# EAGLE library part T92S7D12 (library relay)
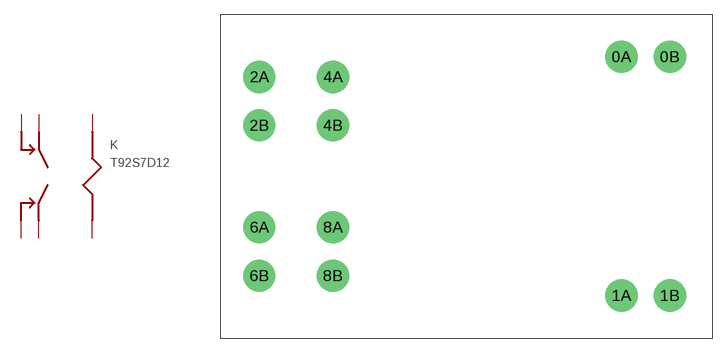
[diagram p0: symbol with the pads of T92-PCPIN; footprint T92-PCPIN]

Designator prefix K

## T92S7D12  [T92-PCPIN]
0A  0
0B  0
1A  1
1B  1
2A  2
2B  2
4A  4
4B  4
6A  6
6B  6
8A  8
8B  8

## Footprint T92-PCPIN (pad centres in mm)
drill 2.413: 0A 38.532,2.134; 0B 43.688,2.134; 1A 38.532,-23.266; 1B 43.688,-23.266; 2A 0,0; 2B 0,-5.156; 4A 7.849,0; 4B 7.849,-5.156; 6A 0,-16.002; 6B 0,-21.158; 8A 7.849,-16.002; 8B 7.849,-21.158